# Altium schematic symbol library SamacSys.SchLib: 125 symbols (part 1 of 2)
Pins are listed as number, name and electrical type; pins without a type are passive.

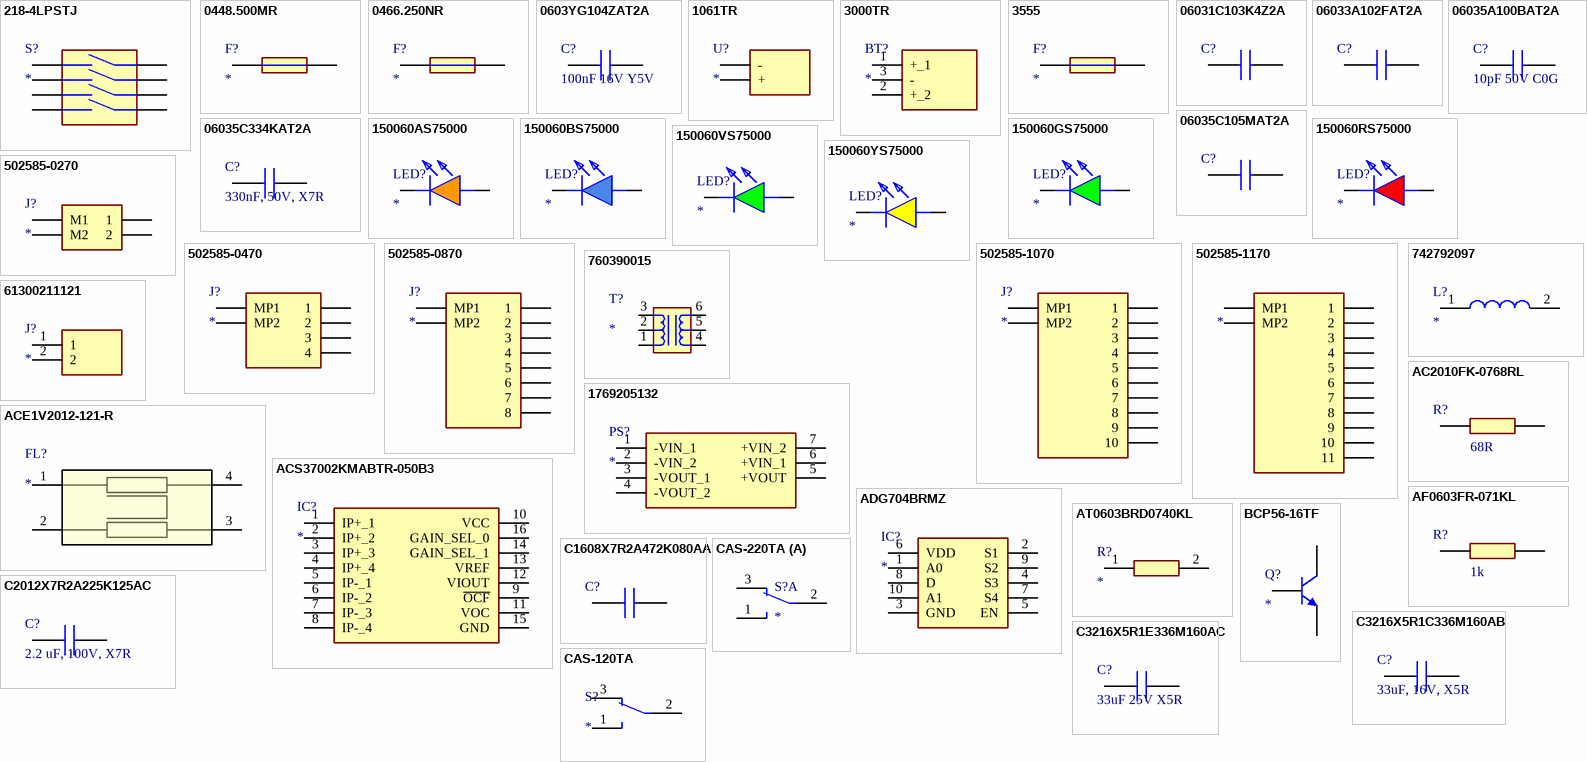
[diagram p0: symbols 218-4LPSTJ to CAS-220TA]

## 218-4LPSTJ
designator S?
Switch; Manufacturer_Name: CTS; Manufacturer_Part_Number: 218-4LPSTJ; Datasheet Link: https://www.ctscorp.com/wp-content/uploads/218.pdf; Height: 2.7mm; Mouser Part Number: 774-218-4LPSTJ; Mouser Price/Stock: https://www.mouser.co.uk/ProductDetail/CTS-Electronic-Components/218-4LPSTJ?qs=qNzHFtQhdJ%2Frpuf7cnHHWA%3D%3D; Arrow Part Number: 218-4LPSTJ; Arrow Price/Stock: https://www.arrow.com/en/products/218-4lpstj/cts
footprint 2184LPSTJ
pins: A1, A2, A3, A4, B1, B2, B3, B4

## 0448.500MR
designator F?
Fuse; Manufacturer_Name: LITTELFUSE; Manufacturer_Part_Number: 0448.500MR; Datasheet Link: https://www.mouser.in/datasheet/2/240/Littelfuse_Fuse_448_Datasheet_pdf-970935.pdf; Height: 2.94mm; Mouser Part Number: 576-0448.500MR; Mouser Price/Stock: https://www.mouser.co.uk/ProductDetail/Littelfuse/0448.500MR?qs=sba%2FvSn%252BnuOI9c6%252BQVFrGA%3D%3D; Arrow Part Number: 0448.500MR; Arrow Price/Stock: https://www.arrow.com/en/products/0448.500mr/littelfuse
footprint FUSC6127X294N
pins: 1, 2

## 0466.250NR
designator F?
Fuse; Manufacturer_Name: LITTELFUSE; Manufacturer_Part_Number: 0466.250NR; Datasheet Link: http://www.littelfuse.com/~/media/electronics/datasheets/fuses/littelfuse_fuse_466_datasheet.pdf.pdf; Height: 0.66mm; Mouser Part Number: 576-0466.250NR; Mouser Price/Stock: https://www.mouser.co.uk/ProductDetail/Littelfuse/0466.250NR?qs=OJFHm2hVE4FeDcEECJ4GEQ%3D%3D; Arrow Part Number: 0466.250NR; Arrow Price/Stock: https://www.arrow.com/en/products/0466.250nr/littelfuse?region=nac
footprint FUSC3215X66N
pins: 1, 2

## 0603YG104ZAT2A
designator C?, comment 100nF 16V Y5V
Capacitor 100nF 16V Y5V; Manufacturer_Name: Kyocera AVX; Manufacturer_Part_Number: 0603YG104ZAT2A; Datasheet Link: https://componentsearchengine.com/Datasheets/1/06031A100FAT2A.pdf; Height: 0.9mm; Mouser Part Number: 581-0603YG104ZAT2A; Mouser Price/Stock: https://www.mouser.co.uk/ProductDetail/AVX/0603YG104ZAT2A?qs=b9lrxWun4G3w2hKVYW6fsQ%3D%3D; Arrow Part Number: 0603YG104ZAT2A; Arrow Price/Stock: https://www.arrow.com/en/products/0603yg104zat2a/avx?region=nac; Value: 100nF
footprint CAPC1608X90N
pins: 1, 2

## 1061TR
designator U?
Undefined or Miscellaneous; Manufacturer_Name: Keystone Electronics; Manufacturer_Part_Number: 1061TR; Datasheet Link: https://www.keyelco.com/product-pdf.cfm?p=3845; Height: 7.62mm; Mouser Part Number: 534-1061TR; Mouser Price/Stock: https://www.mouser.co.uk/ProductDetail/Keystone-Electronics/1061TR?qs=q0tsjPZWdm8mEkIEudXsxA%3D%3D; Arrow Part Number: 1061TR; Arrow Price/Stock: https://www.arrow.com/en/products/1061tr/keystone-electronics?utm_currency=USD&region=europe
footprint 1061TR
pins: 1 +, 2 -

## 3000TR
designator BT?
Battery; Manufacturer_Name: Keystone Electronics; Manufacturer_Part_Number: 3000TR; Datasheet Link: https://www.keyelco.com/produchttps://www.mouser.co.za/datasheet/2/215/3000TR-742873.pdft-pdf.cfm?p=777; Height: 3.43mm; Mouser Part Number: 534-3000TR; Mouser Price/Stock: https://www.mouser.co.uk/ProductDetail/Keystone-Electronics/3000TR?qs=811De8TLL%252BeRUCmGL5ZsKg%3D%3D; Arrow Part Number: 3000TR; Arrow Price/Stock: https://www.arrow.com/en/products/3000tr/keystone-electronics?utm_currency=USD&region=europe
footprint 3000TR
pins: 1 +_1, 2 +_2, 3 -

## 3555
designator F?
Fuse; Manufacturer_Name: Keystone Electronics; Manufacturer_Part_Number: 3555; Datasheet Link: https://componentsearchengine.com/Datasheets/2/3555.pdf; Height: 4.6mm; Mouser Part Number: 534-3555; Mouser Price/Stock: https://www.mouser.co.uk/ProductDetail/Keystone-Electronics/3555?qs=qOqV1E1P08QI697WpZIiyQ%3D%3D
footprint 3555
pins: 1, 2

## 06031C103K4Z2A
designator C?, comment 10nF 100V X7R  (value not drawn)
Capacitor 10nF 100V X7R; Manufacturer_Name: Kyocera AVX; Manufacturer_Part_Number: 06031C103K4Z2A; Datasheet Link: https://componentsearchengine.com/Datasheets/1/06031A100FAT2A.pdf; Height: 0.9mm; Mouser Part Number: 581-06031C103K4Z2A; Mouser Price/Stock: https://www.mouser.com/Search/Refine.aspx?Keyword=581-06031C103K4Z2A; Arrow Part Number: 06031C103K4Z2A; Arrow Price/Stock: https://www.arrow.com/en/products/06031c103k4z2a/avx; Value: 10nF
footprint CAPC1608X90N
pins: 1, 2

## 06033A102FAT2A
designator C?, comment 1nF 25V COG  (value not drawn)
Capacitor 1nF 25V COG; Manufacturer_Name: Kyocera AVX; Manufacturer_Part_Number: 06033A102FAT2A; Datasheet Link: https://componentsearchengine.com/Datasheets/1/06031A100FAT2A.pdf; Height: 0.9mm; Mouser Part Number: 581-06033A102F; Mouser Price/Stock: https://www.mouser.com/Search/Refine.aspx?Keyword=581-06033A102F; Value: 1nF
footprint CAPC1608X90N
pins: 1, 2

## 06035A100BAT2A
designator C?, comment 10pF 50V C0G
Capacitor 10pF 50V C0G; Manufacturer_Name: Kyocera AVX; Manufacturer_Part_Number: 06035A100BAT2A; Datasheet Link: https://componentsearchengine.com/Datasheets/1/06031A100FAT2A.pdf; Height: 0.9mm; Mouser Part Number: 581-06035A100BAT2A; Mouser Price/Stock: https://www.mouser.com/Search/Refine.aspx?Keyword=581-06035A100BAT2A
footprint CAPC1608X90N
pins: 1, 2

## 06035C105MAT2A
designator C?, comment 1uF 50V X7R  (value not drawn)
Capacitor 1uF 50V X7R; Manufacturer_Name: Kyocera AVX; Manufacturer_Part_Number: 06035C105MAT2A; Datasheet Link: https://componentsearchengine.com/Datasheets/1/06031A100FAT2A.pdf; Height: 0.9mm; Mouser Part Number: 581-06035C105MAT2A; Mouser Price/Stock: https://www.mouser.co.uk/ProductDetail/KYOCERA-AVX/06035C105MAT2A?qs=%252BdQmOuGyFcHMsevPtc6OZQ%3D%3D; Value: 1uF
footprint CAPC1608X90N
pins: 1, 2

## 06035C334KAT2A
designator C?, comment 330nF, 50V, X7R
Capacitor 330nF, 50V, X7R; Manufacturer_Name: Kyocera AVX; Manufacturer_Part_Number: 06035C334KAT2A; Datasheet Link: https://componentsearchengine.com/Datasheets/1/06031A100FAT2A.pdf; Height: 0.9mm; Mouser Part Number: 581-06035C334KAT2A; Mouser Price/Stock: https://www.mouser.co.uk/ProductDetail/KYOCERA-AVX/06035C334KAT2A?qs=%252BdQmOuGyFcFl6Xc6UpmR5g%3D%3D; Supplier 1: Mouser; Supplier Part Number 1: 581-06035C334KAT2A
footprint CAPC1608X90N
pins: 1, 2

## 150060AS75000
designator LED?
LED; Manufacturer_Name: Wurth Elektronik; Manufacturer_Part_Number: 150060AS75000; Datasheet Link: https://componentsearchengine.com/Datasheets/2/150060AS75000.pdf; Height: 0.8mm; Mouser Part Number: 710-150060AS75000; Mouser Price/Stock: https://www.mouser.co.uk/ProductDetail/Wurth-Elektronik/150060AS75000?qs=d0WKAl%252BL4KbvMBYryeof0Q%3D%3D
footprint LEDC1608X80N
pins: 1 K, 2 A

## 150060BS75000
designator LED?
LED; Manufacturer_Name: Wurth Elektronik; Manufacturer_Part_Number: 150060BS75000; Datasheet Link: https://componentsearchengine.com/Datasheets/2/150060BS75000.pdf; Height: 0.8mm; Mouser Part Number: 710-150060BS75000; Mouser Price/Stock: https://www.mouser.co.uk/ProductDetail/Wurth-Elektronik/150060BS75000?qs=LlUlMxKIyB2DLLpXQThavA%3D%3D
footprint LEDC1608X80N
pins: 1 K, 2 A

## 150060GS75000
designator LED?
LED; Manufacturer_Name: Wurth Elektronik; Manufacturer_Part_Number: 150060GS75000; Datasheet Link: https://componentsearchengine.com/Datasheets/2/150060GS75000.pdf; Height: 0.8mm; Mouser Part Number: 710-150060GS75000; Mouser Price/Stock: https://www.mouser.co.uk/ProductDetail/Wurth-Elektronik/150060GS75000?qs=LlUlMxKIyB0UYkq5lDO8nA%3D%3D
footprint LEDC1608X80N
pins: 1 K, 2 A

## 150060RS75000
designator LED?
LED; Manufacturer_Name: Wurth Elektronik; Manufacturer_Part_Number: 150060RS75000; Datasheet Link: http://katalog.we-online.de/led/datasheet/150060RS75000.pdf; Height: 0.8mm; Mouser Part Number: 710-150060RS75000; Mouser Price/Stock: https://www.mouser.co.uk/ProductDetail/Wurth-Elektronik/150060RS75000?qs=LlUlMxKIyB3QnmZ3fw%2FVCA%3D%3D
footprint LEDC1608X80N
pins: 1 K, 2 A

## 150060VS75000
designator LED?
LED; Manufacturer_Name: Wurth Elektronik; Manufacturer_Part_Number: 150060VS75000; Datasheet Link: https://componentsearchengine.com/Datasheets/2/150060VS75000.pdf; Height: 0.8mm; Mouser Part Number: 710-150060VS75000; Mouser Price/Stock: https://www.mouser.co.uk/ProductDetail/Wurth-Elektronik/150060VS75000?qs=LlUlMxKIyB1Q1Bi5mQ%2FKLw%3D%3D
footprint LEDC1608X80N
pins: 1 K, 2 A

## 150060YS75000
designator LED?
LED; Manufacturer_Name: Wurth Elektronik; Manufacturer_Part_Number: 150060YS75000; Datasheet Link: http://uk.rs-online.com/web/p/products/8154219; Height: 0.8mm; Mouser Part Number: 710-150060YS75000; Mouser Price/Stock: https://www.mouser.co.uk/ProductDetail/Wurth-Elektronik/150060YS75000?qs=LlUlMxKIyB0nKmwefHgtZw%3D%3D
footprint LEDC1608X80N
pins: 1 K, 2 A

## 502585-0270
designator J?
Connector; Manufacturer_Name: Molex; Manufacturer_Part_Number: 502585-0270; Datasheet Link: https://www.molex.com/pdm_docs/sd/5025850270_sd.pdf; Height: 6.35mm; Mouser Part Number: 538-502585-0270; Mouser Price/Stock: https://www.mouser.co.uk/ProductDetail/Molex/502585-0270?qs=3OKVfsn1b5AIV0Cqykd0DA%3D%3D; Arrow Part Number: 502585-0270; Arrow Price/Stock: https://www.arrow.com/en/products/502585-0270/molex
footprint 5025850270
pins: 1, 2, M1, M2

## 502585-0470
designator J?
Connector; Manufacturer_Name: Molex; Manufacturer_Part_Number: 502585-0470; Height: 6.6mm; Mouser Part Number: 538-502585-0470; Mouser Price/Stock: https://www.mouser.co.uk/ProductDetail/Molex/502585-0470?qs=3OKVfsn1b5AU8ip3wCejKg%3D%3D; Arrow Part Number: 502585-0470; Arrow Price/Stock: https://www.arrow.com/en/products/5025850470/molex
footprint 5025850470
pins: 1, 2, 3, 4, MP1, MP2

## 502585-0870
designator J?
Connector; Manufacturer_Name: Molex; Manufacturer_Part_Number: 502585-0870; Datasheet Link: https://componentsearchengine.com/Datasheets/2/502585-0870.pdf; Height: 6.35mm; Mouser Part Number: 538-502585-0870; Mouser Price/Stock: https://www.mouser.co.uk/ProductDetail/Molex/502585-0870?qs=3OKVfsn1b5BOXCAdpuiwCA%3D%3D; Arrow Part Number: 502585-0870; Arrow Price/Stock: https://www.arrow.com/en/products/502585-0870/molex
footprint 5025850870
pins: 1, 2, 3, 4, 5, 6, 7, 8, MP1, MP2

## 502585-1070
designator J?
Connector; Manufacturer_Name: Molex; Manufacturer_Part_Number: 502585-1070; Datasheet Link: https://www.molex.com/pdm_docs/sd/5025851070_sd.pdf; Height: 6.35mm; Mouser Part Number: 538-502585-1070; Mouser Price/Stock: https://www.mouser.co.uk/ProductDetail/Molex/502585-1070?qs=3OKVfsn1b5BLfpTO0z92Dw%3D%3D; Arrow Part Number: 502585-1070; Arrow Price/Stock: https://www.arrow.com/en/products/502585-1070/molex
footprint 5025851070
pins: 1, 2, 3, 4, 5, 6, 7, 8, 9, 10, MP1, MP2

## 502585-1170
designator ?
Connector; Manufacturer_Name: Molex; Manufacturer_Part_Number: 502585-1070; Datasheet Link: https://www.molex.com/pdm_docs/sd/5025851070_sd.pdf; Height: 6.35mm; Mouser Part Number: 538-502585-1070; Mouser Price/Stock: https://www.mouser.co.uk/ProductDetail/Molex/502585-1070?qs=3OKVfsn1b5BLfpTO0z92Dw%3D%3D; Arrow Part Number: 502585-1070; Arrow Price/Stock: https://www.arrow.com/en/products/502585-1070/molex
footprint 5025851170
pins: 1, 2, 3, 4, 5, 6, 7, 8, 9, 10, 11, MP1, MP2

## 742792097
designator L?
Inductor; Manufacturer_Name: Wurth Elektronik; Manufacturer_Part_Number: 742792097; Datasheet Link: http://componentsearchengine.com/Datasheets/1/742792097.pdf; Height: 1.1mm; Mouser Part Number: 710-742792097; Mouser Price/Stock: https://www.mouser.co.uk/ProductDetail/Wurth-Elektronik/742792097?qs=5twSNpOB8IDmTOgwZuY8hA%3D%3D
footprint CAPC2012X110N
pins: 1, 2

## 760390015
designator T?
Transformer; Manufacturer_Name: Wurth Elektronik; Manufacturer_Part_Number: 760390015; Datasheet Link: https://www.we-online.com/components/products/datasheet/760390015.pdf; Mouser Part Number: 710-760390015; Mouser Price/Stock: https://www.mouser.co.uk/ProductDetail/Wurth-Elektronik/760390015?qs=wElim4iM2pjOQCmk%252B8YbFA%3D%3D
footprint 760390015
pins: 1, 2, 3, 4, 5, 6

## 1769205132
designator PS?
Power Supply; Manufacturer_Name: Wurth Elektronik; Manufacturer_Part_Number: 1769205132; Datasheet Link: https://www.we-online.com/components/products/datasheet/1769205132.pdf; Height: 3.2mm; Mouser Part Number: 710-1769205132; Mouser Price/Stock: https://www.mouser.co.uk/ProductDetail/Wurth-Elektronik/1769205132?qs=T%252BzbugeAwjiUHVVyhCL5qA%3D%3D
footprint 1769205132
pins: 1 -VIN_1, 2 -VIN_2, 3 -VOUT_1, 4 -VOUT_2, 5 +VOUT, 6 +VIN_1, 7 +VIN_2

## 61300211121
designator J?
Connector; Manufacturer_Name: Wurth Elektronik; Manufacturer_Part_Number: 61300211121; Datasheet Link: https://componentsearchengine.com/Datasheets/2/61300211121.pdf; Height: 8.54mm; Mouser Part Number: 710-61300211121; Mouser Price/Stock: https://www.mouser.co.uk/ProductDetail/Wurth-Elektronik/61300211121?qs=t4813l51qx%252B1A5GYDQxPlw%3D%3D
footprint HDRV2W110P0X254_1X2_508X254X854P
pins: 1, 2

## AC2010FK-0768RL
designator R?  value 68R  (hidden comment: *)
Resistor; Manufacturer_Name: YAGEO; Manufacturer_Part_Number: AC2010FK-0768RL; Datasheet Link: https://www.yageo.com/upload/media/product/productsearch/datasheet/rchip/PYu-AC_51_RoHS_L_10.pdf; Height: 0.65mm
footprint RESC5025X65N
pins: 1, 2

## ACE1V2012-121-R
designator FL?
Filter; Manufacturer_Name: Eaton; Manufacturer_Part_Number: ACE1V2012-121-R; Datasheet Link: https://www.eaton.com/content/dam/eaton/products/electronic-components/resources/data-sheet/eaton-ace1v2012-automotive-common-mode-chip-inductor-data-sheet.pdf; Height: 1.4mm; Mouser Part Number: 504-ACE1V2012-121-R; Mouser Price/Stock: https://www.mouser.co.uk/ProductDetail/Coiltronics-Eaton/ACE1V2012-121-R?qs=YwPsRIUVAOfYW6FI0EMgkw%3D%3D
footprint ACE1V2012121R
pins: 1, 2, 3, 4

## ACS37002KMABTR-050B3
designator IC?
Integrated Circuit; Manufacturer_Name: Allegro Microsystems; Manufacturer_Part_Number: ACS37002KMABTR-050B3; Datasheet Link: https://www.allegromicro.com/-/media/files/datasheets/acs37002-datasheet.ashx?sc_lang=en&hash=FFD236A6D18C7717C5A7906548FB48D2; Height: 2.65mm; Mouser Part Number: 250-37002KMABTR050B3; Mouser Price/Stock: https://www.mouser.co.uk/ProductDetail/Allegro-MicroSystems/ACS37002KMABTR-050B3?qs=pUKx8fyJudCSE%2FoW6XxDYQ%3D%3D
footprint SOIC127P1030X265-16N
pins: 1 IP+_1, 2 IP+_2, 3 IP+_3, 4 IP+_4, 5 IP-_1, 6 IP-_2, 7 IP-_3, 8 IP-_4, 9 ~{OCF}, 10 VCC, 11 VOC, 12 VIOUT, 13 VREF, 14 GAIN_SEL_1, 15 GND, 16 GAIN_SEL_0

## ADG704BRMZ
designator IC?
Integrated Circuit; Manufacturer_Name: Analog Devices; Manufacturer_Part_Number: ADG704BRMZ; Datasheet Link: https://datasheet.datasheetarchive.com/originals/distributors/Datasheets-4/DSA-69549.pdf; Height: 1.1mm; Mouser Part Number: 584-ADG704BRMZ; Mouser Price/Stock: https://www.mouser.co.uk/ProductDetail/Analog-Devices/ADG704BRMZ?qs=BpaRKvA4VqEkN1EGAKO1Aw%3D%3D; Arrow Part Number: ADG704BRMZ; Arrow Price/Stock: https://www.arrow.com/en/products/adg704brmz/analog-devices?utm_currency=USD&region=nac
footprint SOP50P490X110-10N
pins: 1 A0, 2 S1, 3 GND, 4 S3, 5 EN, 6 VDD, 7 S4, 8 D, 9 S2, 10 A1

## AF0603FR-071KL
designator R?, comment value 1k  (hidden comment: 1k, 1%)
Resistor 1k, 1%; Manufacturer_Name: YAGEO; Manufacturer_Part_Number: AF0603FR-071KL; Datasheet Link: https://www.mouser.de/datasheet/2/447/PYu_AF_51_RoHS_L_9-3358811.pdf; Height: 0.55mm; Mouser Part Number: 603-AF0603FR-071KL; Mouser Price/Stock: https://www.mouser.co.uk/ProductDetail/YAGEO/AF0603FR-071KL?qs=tggtontpCXPK7%252BIEiEzGxw%3D%3D; Supplier 1: Avnet; Supplier Part Number 1: AF0603FR-071KL
footprint RESC1608X55N
pins: 1, 2

## AT0603BRD0740KL
designator R?
Resistor; Manufacturer_Name: YAGEO; Manufacturer_Part_Number: AT0603BRD0740KL; Datasheet Link: https://pt.mouser.com/datasheet/2/447/PYu_AT_51_RoHS_L_6-3003058.pdf; Height: 0.55mm
footprint RESC1608X55N
pins: 1, 2

## BCP56-16TF
designator Q?
Transistor BJT NPN; Manufacturer_Name: Nexperia; Manufacturer_Part_Number: BCP56-16TF; Datasheet Link: https://assets.nexperia.com/documents/data-sheet/BCP56T_SER.pdf; Height: 1.8mm; Mouser Part Number: 771-BCP56-16TF; Mouser Price/Stock: https://www.mouser.co.uk/ProductDetail/Nexperia/BCP56-16TF?qs=uj7TeyS2Sj96ubfysKmpcg%3D%3D; Arrow Part Number: BCP56-16TF; Arrow Price/Stock: https://www.arrow.com/en/products/bcp56-16tf/nexperia?region=nac
footprint SOT230P700X180-4N
pins: 1 B, 2 C (power), 3 E

## C1608X7R2A472K080AA
designator C?, comment 4.7nF 100V X7R  (value not drawn)
Capacitor 4.7nF 100V X7R; Manufacturer_Name: TDK; Manufacturer_Part_Number: C1608X7R2A472K080AA; Datasheet Link: https://product.tdk.com/info/en/catalog/datasheets/mlcc_commercial_midvoltage_en.pdf; Height: 0.8mm; Mouser Part Number: 810-C1608X7R2A472K; Mouser Price/Stock: https://www.mouser.co.uk/ProductDetail/TDK/C1608X7R2A472K080AA/?qs=NRhsANhppD8eiVaujK4TFA%3D%3D; Arrow Part Number: C1608X7R2A472K080AA; Arrow Price/Stock: https://www.arrow.com/en/products/c1608x7r2a472k080aa/tdk?utm_currency=USD&region=nac; Value: 4.7nF 100V
footprint CAPC1608X80N
pins: 1, 2

## C2012X7R2A225K125AC
designator C?, comment 2.2 uF, 100V, X7R
Capacitor 2.2 uF, 100V, X7R; Manufacturer_Name: TDK; Manufacturer_Part_Number: C2012X7R2A225K125AC; Datasheet Link: https://product.tdk.com/info/en/catalog/datasheets/mlcc_commercial_midvoltage_en.pdf; Height: 1.45mm; Mouser Part Number: 810-C2012X7R2225K125; Mouser Price/Stock: https://www.mouser.co.uk/ProductDetail/TDK/C2012X7R2A225K125AC?qs=17ckDYBRdekDf%2FwiwHq7Mg%3D%3D; Arrow Part Number: C2012X7R2A225K125AC; Arrow Price/Stock: https://www.arrow.com/en/products/c2012x7r2a225k125ac/tdk?utm_currency=USD&region=nac; Supplier 1: Mouser; Supplier Part Number 1: 810-C2012X7R2225K125
footprint CAPC2012X145N
pins: 1, 2

## C3216X5R1C336M160AB
designator C?, comment 33uF, 16V, X5R
Capacitor 33uF, 16V, X5R; Manufacturer_Name: TDK; Manufacturer_Part_Number: C3216X5R1C336M160AB; Datasheet Link: https://product.tdk.com/info/en/catalog/datasheets/mlcc_commercial_midvoltage_en.pdf; Height: 1.8mm; Mouser Part Number: 810-C3216X5R1C336M; Mouser Price/Stock: https://www.mouser.com/Search/Refine.aspx?Keyword=810-C3216X5R1C336M; Arrow Part Number: C3216X5R1C336M160AB; Arrow Price/Stock: https://www.arrow.com/en/products/c3216x5r1c336m160ab/tdk; Supplier 1: Rs; Supplier Part Number 1: 9162902
footprint CAPC3216X180N
pins: 1, 2

## C3216X5R1E336M160AC
designator C?, comment 33uF 25V X5R
Capacitor 33uF 25V X5R; Manufacturer_Name: TDK; Manufacturer_Part_Number: C3216X5R1E336M160AC; Datasheet Link: https://product.tdk.com/info/en/catalog/datasheets/mlcc_commercial_midvoltage_en.pdf; Height: 1.8mm; Mouser Part Number: 810-C3216X5R1E336M; Mouser Price/Stock: https://www.mouser.co.uk/ProductDetail/TDK/C3216X5R1E336M160AC?qs=LcTL%2F5vFEzFIMvFz4LzwTw%3D%3D; Arrow Part Number: C3216X5R1E336M160AC; Arrow Price/Stock: https://www.arrow.com/en/products/c3216x5r1e336m160ac/tdk
footprint CAPC3216X180N
pins: 1, 2

## CAS-120TA
designator S?
Switch; Manufacturer_Name: Nidec Copal; Manufacturer_Part_Number: CAS-120TA; Datasheet Link: https://www.mouser.com/datasheet/2/972/cas-1628136.pdf; Height: 2.5mm; Mouser Part Number: 229-CAS-120TA; Mouser Price/Stock: https://www.mouser.co.uk/ProductDetail/Nidec-Components/CAS-120TA?qs=XeJtXLiO41SaUq1d6RzxrQ%3D%3D; Arrow Part Number: CAS-120TA; Arrow Price/Stock: https://www.arrow.com/en/products/cas-120ta/nidec-copal-electronics
footprint CAS120TA
pins: 1 NO_1, 2 COM_1, 3 NC_1

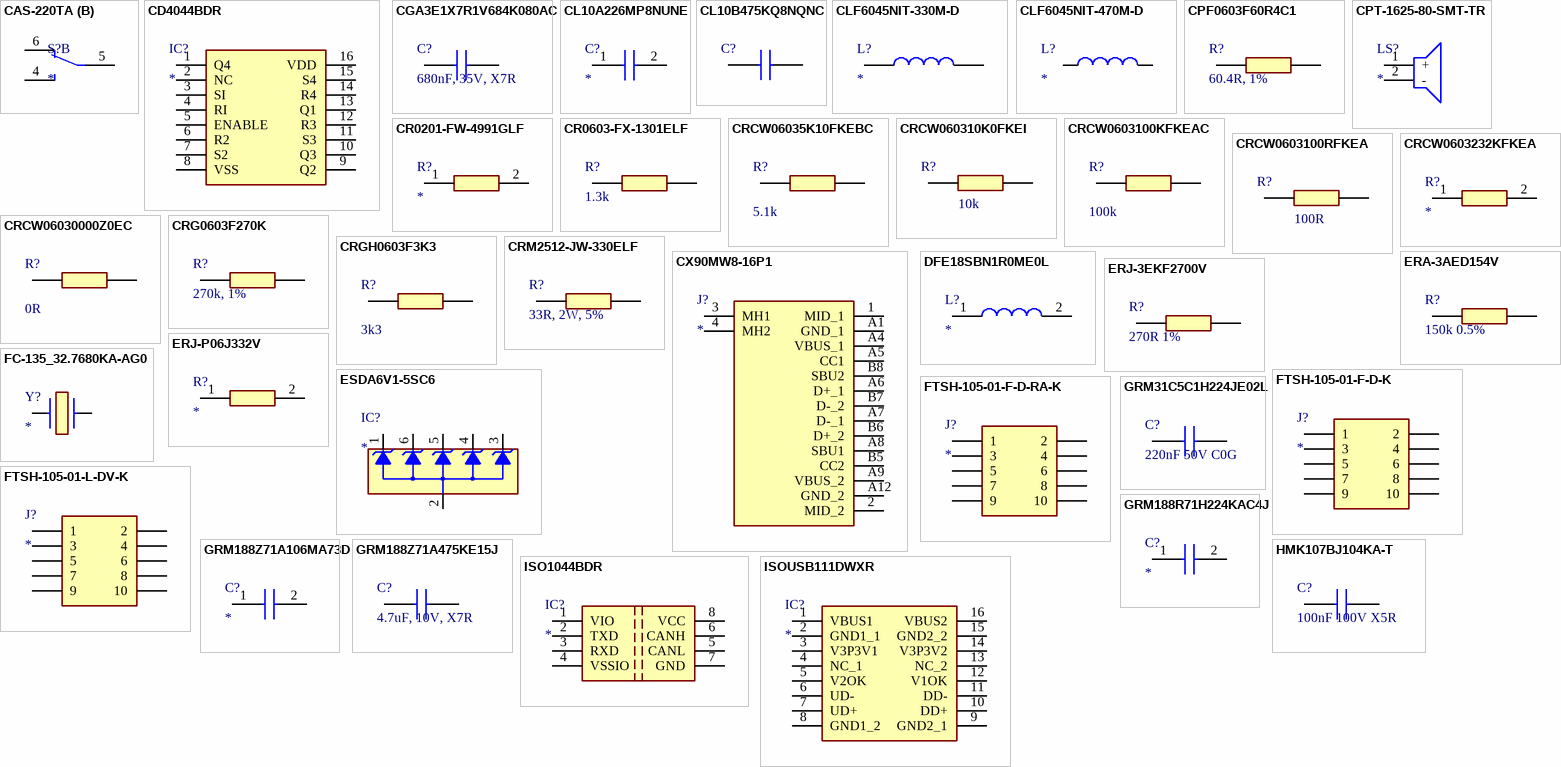
[diagram p1: symbols CAS-220TA to ISOUSB111DWXR]

## CAS-220TA
designator S?
Switch; Manufacturer_Name: Nidec Copal; Manufacturer_Part_Number: CAS-220TA; Datasheet Link: https://www.digikey.ph/en/products/detail/nidec-components-corporation/CAS-220TA/341663?msockid=39f1ec84d77b6f4428b7f904d6676eed; Height: 2.5mm; Mouser Part Number: 229-CAS-220TA; Mouser Price/Stock: https://www.mouser.co.uk/ProductDetail/Nidec-Components/CAS-220TA?qs=XeJtXLiO41Tq8gHkPWHRfA%3D%3D
footprint CAS220TA
part A pins: 1 NO_1, 2 COM_1, 3 NC_1
part B pins: 4 NO_2, 5 COM_2, 6 NC_2

## CD4044BDR
designator IC?
Integrated Circuit; Manufacturer_Name: Texas Instruments; Manufacturer_Part_Number: CD4044BDR; Datasheet Link: http://www.ti.com/lit/ds/symlink/cd4043b.pdf; Height: 1.75mm; Mouser Part Number: 595-CD4044BDR; Mouser Price/Stock: https://www.mouser.co.uk/ProductDetail/Texas-Instruments/CD4044BDR?qs=LSR%252BNeaw%2FwCYur1174DbLw%3D%3D; Arrow Part Number: CD4044BDR; Arrow Price/Stock: https://www.arrow.com/en/products/cd4044bdr/texas-instruments?region=nac
footprint SOIC127P600X175-16N
pins: 1 Q4, 2 NC, 3 SI, 4 RI, 5 ENABLE, 6 R2, 7 S2, 8 VSS, 9 Q2, 10 Q3, 11 S3, 12 R3, 13 Q1, 14 R4, 15 S4, 16 VDD

## CGA3E1X7R1V684K080AC
designator C?, comment 680nF, 35V, X7R
Capacitor 680nF, 35V, X7R; Manufacturer_Name: TDK; Manufacturer_Part_Number: CGA3E1X7R1V684K080AC; Datasheet Link: http://docs-europe.electrocomponents.com/webdocs/14e9/0900766b814e9125.pdf; Height: 0.9mm; Supplier 1: Mouser; Supplier Part Number 1: 810-CGA3E1X7R1V684KC
footprint CAPC1608X90N
pins: 1, 2

## CL10A226MP8NUNE
designator C?
Capacitor; Manufacturer_Name: SAMSUNG; Manufacturer_Part_Number: CL10A226MP8NUNE; Datasheet Link: https://datasheet.datasheetarchive.com/originals/distributors/Datasheets-DGA10/2407063.pdf; Height: 1.05mm; Mouser Part Number: 187-CL10A226MP8NUNE; Mouser Price/Stock: https://www.mouser.co.uk/ProductDetail/Samsung-Electro-Mechanics/CL10A226MP8NUNE?qs=gRKWieUq2Hb5O0PTfRKzDQ%3D%3D; Arrow Part Number: CL10A226MP8NUNE; Arrow Price/Stock: https://www.arrow.com/en/products/cl10a226mp8nune/samsung-electro-mechanics?region=europe
footprint CAPC1608X105N
pins: 1, 2

## CL10B475KQ8NQNC
designator C?, comment 4.7uF 6.3V X7R  (value not drawn)
Capacitor 4.7uF 6.3V X7R; Manufacturer_Name: SAMSUNG; Manufacturer_Part_Number: CL10B475KQ8NQNC; Datasheet Link: https://datasheet.datasheetarchive.com/originals/distributors/Datasheets-DGA10/2410603.pdf; Height: 0.95mm; Mouser Part Number: 187-CL10B475KQ8NQNC; Mouser Price/Stock: https://www.mouser.co.uk/ProductDetail/Samsung-Electro-Mechanics/CL10B475KQ8NQNC?qs=6tbHoouHnQxd6rcaSwpT7Q%3D%3D; Arrow Part Number: CL10B475KQ8NQNC; Arrow Price/Stock: https://www.arrow.com/en/products/cl10b475kq8nqnc/samsung-electro-mechanics; Value: 4.7uF
footprint CAPC1608X95N
pins: 1, 2

## CLF6045NIT-330M-D
designator L?
Inductor; Manufacturer_Name: TDK; Manufacturer_Part_Number: CLF6045NIT-330M-D; Datasheet Link: https://product.tdk.com/system/files/dam/doc/product/inductor/inductor/smd/catalog/inductor_automotive_power_clf6045ni-d_en.pdf; Mouser Part Number: 810-CLF6045NIT330MD; Mouser Price/Stock: https://www.mouser.co.uk/ProductDetail/TDK/CLF6045NIT-330M-D?qs=YdQ7Kj7W0bxA8K96Mp4PlQ%3D%3D; Arrow Part Number: CLF6045NIT-330M-D; Arrow Price/Stock: https://www.arrow.com/en/products/clf6045nit-330m-d/tdk?region=nac
footprint CLF6045_*
pins: 1, 2

## CLF6045NIT-470M-D
designator L?
Inductor; Manufacturer_Name: TDK; Manufacturer_Part_Number: CLF6045NIT-470M-D; Datasheet Link: https://product.tdk.com/system/files/dam/doc/product/inductor/inductor/smd/catalog/inductor_automotive_power_clf6045ni-d_en.pdf; Mouser Part Number: 810-CLF6045NIT470MD; Mouser Price/Stock: https://www.mouser.co.uk/ProductDetail/TDK/CLF6045NIT-470M-D?qs=YdQ7Kj7W0bxoCM5zjdDu7Q%3D%3D; Arrow Part Number: CLF6045NIT-470M-D; Arrow Price/Stock: https://www.arrow.com/en/products/clf6045nit-470m-d/tdk
footprint CLF6045_*
pins: 1, 2

## CPF0603F60R4C1
designator R?, comment 60.4R, 1%
Resistor 60.4R, 1%; Manufacturer_Name: TE Connectivity; Manufacturer_Part_Number: CPF0603F60R4C1; Datasheet Link: https://www.te.com/commerce/DocumentDelivery/DDEController?Action=srchrtrv&DocNm=8-1773459-4_ELEVATOR_ESCALATOR_SOLUTIONS&DocType=Data%20Sheet&DocLang=English&PartCntxt=4-1879335-4&DocFormat=pdf; Height: 0.55mm; Value: 60.4R; Supplier 1: Mouser; Supplier Part Number 1: 279-CPF0603F60R4C1
footprint RESC1608X55N
pins: 1, 2

## CPT-1625-80-SMT-TR
designator LS?
Loudspeaker or Buzzer; Manufacturer_Name: Same Sky; Manufacturer_Part_Number: CPT-1625-80-SMT-TR; Datasheet Link: https://www.sameskydevices.com/product/resource/supplyframepdf/cpt-1625-80-smt-tr.pdf; Height: 3mm; Mouser Part Number: 490-CPT-1625-80SMTTR; Mouser Price/Stock: https://www.mouser.co.uk/ProductDetail/CUI-Devices/CPT-1625-80-SMT-TR?qs=P1JMDcb91o43eCFIymFs3Q%3D%3D
footprint CPT162580SMTTR
pins: 1 +, 2 -

## CR0201-FW-4991GLF
designator R?
Resistor; Manufacturer_Name: Bourns; Manufacturer_Part_Number: CR0201-FW-4991GLF; Datasheet Link: https://www.bourns.com/pdfs/chpreztr.pdf; Height: 0.26mm; Mouser Part Number: 652-CR0201FW-4991GLF; Mouser Price/Stock: https://www.mouser.co.uk/ProductDetail/Bourns/CR0201-FW-4991GLF?qs=W7X4MxMep48JtJbJXkcmpg%3D%3D
footprint RESC0603X26N
pins: 1, 2

## CR0603-FX-1301ELF
designator R?, comment value 1.3k  (hidden comment: 1.3k, 1%)
Resistor 1.3k, 1%; Manufacturer_Name: Bourns; Manufacturer_Part_Number: CR0603-FX-1301ELF; Datasheet Link: https://www.bourns.com/pdfs/chpreztr.pdf; Height: 0.55mm; Mouser Part Number: 652-CR0603FX-1301ELF; Mouser Price/Stock: http://www.mouser.com/Search/ProductDetail.aspx?qs=e7cxVwPieuqy%252bILjxvjWKw%3d%3d; Arrow Part Number: CR0603-FX-1301ELF; Arrow Price/Stock: https://www.arrow.com/en/products/cr0603-fx-1301elf/bourns; Supplier 1: Avnet; Supplier Part Number 1: 34AK1363
footprint RESC1608X55N
pins: 1, 2

## CRCW06035K10FKEBC
designator R?, comment value 5.1k  (hidden comment: 5.1k, 1%)
Resistor 5.1k, 1%; Manufacturer_Name: Vishay; Manufacturer_Part_Number: CRCW06035K10FKEBC; Datasheet Link: https://www.vishay.com/docs/28773/crcwce3.pdf; Height: 0.55mm; Mouser Part Number: 71-CRCW06035K10FKEBC; Mouser Price/Stock: https://www.mouser.co.uk/ProductDetail/Vishay-Dale/CRCW06035K10FKEBC?qs=wd5RIQLrsJiajonkePuzqw%3D%3D; Arrow Part Number: CRCW06035K10FKEBC; Arrow Price/Stock: https://www.arrow.com/en/products/crcw06035k10fkebc/vishay?region=nac; Supplier 1: Mouser; Supplier Part Number 1: 71-CRCW06035K10FKEBC
footprint RESC1608X55N
pins: 1, 2

## CRCW060310K0FKEI
designator R?, comment value 10k  (hidden comment: 10k, 1%)
Resistor 10k, 1%; Manufacturer_Name: Vishay; Manufacturer_Part_Number: CRCW060310K0FKEI; Datasheet Link: http://www.vishay.com/docs/20035/dcrcwe3.pdf; Height: 0.5mm; Mouser Part Number: 71-CRCW060310K0FKEI; Mouser Price/Stock: https://www.mouser.co.uk/ProductDetail/Vishay-Dale/CRCW060310K0FKEI?qs=3qWEzBg5KnKofE%252B8acPBRA%3D%3D; Arrow Part Number: CRCW060310K0FKEI; Arrow Price/Stock: https://www.arrow.com/en/products/crcw060310k0fkei/vishay?utm_currency=USD&region=nac; Supplier 1: Mouser; Supplier Part Number 1: 71-CRCW060310K0FKEI
footprint RESC1608X50N
pins: 1, 2

## CRCW0603100KFKEAC
designator R?, comment value 100k  (hidden comment: 100k 1%)
Resistor 100k, 1%; Manufacturer_Name: Vishay; Manufacturer_Part_Number: CRCW0603100KFKEAC; Datasheet Link: https://www.mouser.com/datasheet/2/427/crcwce3-1223726.pdf; Height: 0.55mm; Mouser Part Number: 71-CRCW0603100KFKEAC; Mouser Price/Stock: https://www.mouser.co.uk/ProductDetail/Vishay-Dale/CRCW0603100KFKEAC?qs=E3Y5ESvWgWPxzfNYyMgX1w%3D%3D; Arrow Part Number: CRCW0603100KFKEAC; Arrow Price/Stock: https://www.arrow.com/en/products/crcw0603100kfkeac/vishay?utm_currency=USD&region=nac; Supplier 1: Mouser; Supplier Part Number 1: 71-CRCW0603100KFKEAC
footprint RESC1608X55N
pins: 1, 2

## CRCW0603100RFKEA
designator R?, comment value 100R  (hidden comment: 100R, 1%)
Resistor 100R, 1%; Manufacturer_Name: Vishay; Manufacturer_Part_Number: CRCW0603100RFKEA; Datasheet Link: http://www.vishay.com/docs/20035/dcrcwe3.pdf; Height: 0.5mm; Mouser Part Number: 71-CRCW0603-100-E3; Mouser Price/Stock: https://www.mouser.co.uk/ProductDetail/Vishay-Dale/CRCW0603100RFKEA?qs=90AHS1y%2FsidGWjjxZAupKg%3D%3D; Arrow Part Number: CRCW0603100RFKEA; Arrow Price/Stock: https://www.arrow.com/en/products/crcw0603100rfkea/vishay?utm_currency=USD&region=europe; Supplier 1: Mouser; Supplier Part Number 1: 71-CRCW0603-100-E3
footprint RESC1608X50N
pins: 1, 2

## CRCW0603232KFKEA
designator R?
Resistor; Manufacturer_Name: Vishay; Manufacturer_Part_Number: CRCW0603232KFKEA; Datasheet Link: http://www.vishay.com/docs/20035/dcrcwe3.pdf; Height: 0.5mm; Mouser Part Number: 71-CRCW0603-232K-E3; Mouser Price/Stock: https://www.mouser.co.uk/ProductDetail/Vishay-Dale/CRCW0603232KFKEA?qs=NHKSztHah43mx5UrSmXOxA%3D%3D; Arrow Part Number: CRCW0603232KFKEA; Arrow Price/Stock: https://www.arrow.com/en/products/crcw0603232kfkea/vishay
footprint RESC1608X50N
pins: 1, 2

## CRCW06030000Z0EC
designator R?, comment value 0R  (hidden comment: 0Ohm)
Resistor 0R; Manufacturer_Name: Vishay; Manufacturer_Part_Number: CRCW06030000Z0EC; Datasheet Link: http://www.vishay.com/docs/20035/dcrcwe3.pdf; Height: 0.5mm; Mouser Part Number: 71-CRCW06030000Z0EC; Mouser Price/Stock: https://www.mouser.co.uk/ProductDetail/Vishay-Dale/CRCW06030000Z0EC?qs=5Vo7YKalRVV5nT3RQodYAA%3D%3D; Arrow Part Number: CRCW06030000Z0EC; Arrow Price/Stock: https://www.arrow.com/en/products/crcw06030000z0ec/vishay?utm_currency=USD&region=nac
footprint RESC1608X50N
pins: 1, 2

## CRG0603F270K
designator R?, comment 270k, 1%
Resistor 270k, 1%; Manufacturer_Name: TE Connectivity; Manufacturer_Part_Number: CRG0603F270K; Datasheet Link: http://docs-europe.electrocomponents.com/webdocs/13d1/0900766b813d116f.pdf; Height: 0.55mm; Supplier 1: Arrow Electronics; Supplier Part Number 1: 1622896-1
footprint RESC1608X55N
pins: 1, 2

## CRGH0603F3K3
designator R?, comment value 3k3  (hidden comment: 3k3 1%)
Resistor 3k3 1%; Manufacturer_Name: TE Connectivity; Manufacturer_Part_Number: CRGH0603F3K3; Datasheet Link: http://docs-europe.electrocomponents.com/webdocs/12d7/0900766b812d7379.pdf; Height: 0.55mm; Supplier 1: Avnet; Supplier Part Number 1: 46AK9312
footprint RESC1608X55N
pins: 1, 2

## CRM2512-JW-330ELF
designator R?, comment 33R, 2W, 5%
Resistor 33R, 2W, 5%; Manufacturer_Name: Bourns; Manufacturer_Part_Number: CRM2512-JW-330ELF; Datasheet Link: http://www.bourns.com/data/global/pdfs/CRM0805_1206_2010.pdf; Height: 0.8mm; Mouser Part Number: 652-CRM2512JW330ELF; Mouser Price/Stock: https://www.mouser.co.uk/ProductDetail/Bourns/CRM2512-JW-330ELF?qs=dxeCVZFKEXcR8BXxHz0dQA%3D%3D; Supplier 1: Mouser; Supplier Part Number 1: 652-CRM2512JW330ELF
footprint RESC6331X80N
pins: 1, 2

## CX90MW8-16P1
designator J?
Connector; Manufacturer_Name: Hirose; Manufacturer_Part_Number: CX90MW8-16P1; Datasheet Link: https://www.hirose.com/en/product/p/CL0480-1037-0-00; Height: 2.275mm; Mouser Part Number: 798-CX90MW8-16P1; Mouser Price/Stock: https://www.mouser.co.uk/ProductDetail/Hirose-Connector/CX90MW8-16P1?qs=ZcfC38r4PoufgP%2F29rnabA%3D%3D
footprint CX90MW816P1
pins: 1 MID_1, 2 MID_2, 3 MH1, 4 MH2, A1 GND_1, A4 VBUS_1, A5 CC1, A6 D+_1, A7 D-_1, A8 SBU1, A9 VBUS_2, A12 GND_2, B5 CC2, B6 D+_2, B7 D-_2, B8 SBU2

## DFE18SBN1R0ME0L
designator L?
Inductor; Manufacturer_Name: Murata Electronics; Manufacturer_Part_Number: DFE18SBN1R0ME0L; Datasheet Link: https://search.murata.co.jp/Ceramy/image/img/P02/JETE243A-0041.pdf; Height: 0.8mm; Mouser Part Number: 81-DFE18SBN1R0ME0L; Mouser Price/Stock: https://www.mouser.co.uk/ProductDetail/Murata-Electronics/DFE18SBN1R0ME0L?qs=byeeYqUIh0Mps9dQtDnpsA%3D%3D
footprint DFE18SAN1R0ME0L
pins: 1, 2

## ERA-3AED154V
designator R?, comment 150k 0.5%
Resistor 150k 0.5%; Manufacturer_Name: Panasonic; Manufacturer_Part_Number: ERA-3AED154V; Datasheet Link: https://industrial.panasonic.com/cdbs/www-data/pdf/RDM0000/AOA0000C307.pdf; Height: 0.55mm; Mouser Part Number: 667-ERA-3AED154V; Mouser Price/Stock: https://www.mouser.co.uk/ProductDetail/Panasonic/ERA-3AED154V?qs=MNPzkKEzRtSm98HasUBZjQ%3D%3D; Arrow Part Number: ERA-3AED154V; Arrow Price/Stock: https://www.arrow.com/en/products/era-3aed154v/panasonic?region=nac; Supplier 1: Mouser; Supplier Part Number 1: 667-ERA-3AED154V
footprint ERA3AEB101V
pins: 1, 2

## ERJ-3EKF2700V
designator R?, comment 270R 1%
Resistor 270R 1%; Manufacturer_Name: Panasonic; Manufacturer_Part_Number: ERJ-3EKF2700V; Datasheet Link: http://industrial.panasonic.com/cdbs/www-data/pdf/RDA0000/AOA0000C86.pdf; Height: 0.55mm; Mouser Part Number: 667-ERJ-3EKF2700V; Mouser Price/Stock: https://www.mouser.co.uk/ProductDetail/Panasonic/ERJ-3EKF2700V?qs=iBwFsHVUAOdaUVxng5ojCw%3D%3D; Arrow Part Number: ERJ-3EKF2700V; Arrow Price/Stock: https://www.arrow.com/en/products/erj-3ekf2700v/panasonic?region=nac; Value: 270R
footprint RESC1608X55N
pins: 1, 2

## ERJ-P06J332V
designator R?
Resistor; Manufacturer_Name: Panasonic; Manufacturer_Part_Number: ERJ-P06J332V; Datasheet Link: http://industrial.panasonic.com/cdbs/www-data/pdf/RDA0000/AOA0000C102.pdf; Height: 0.7mm; Mouser Part Number: 667-ERJ-P06J332V; Mouser Price/Stock: https://www.mouser.co.uk/ProductDetail/Panasonic/ERJ-P06J332V?qs=Zyl8A9hlmJrue%2FwxovXuCg%3D%3D; Arrow Part Number: ERJ-P06J332V; Arrow Price/Stock: https://www.arrow.com/en/products/erj-p06j332v/panasonic
footprint ERJP06D1000V
pins: 1, 2

## ESDA6V1-5SC6
designator IC?
Integrated Circuit; Manufacturer_Name: STMicroelectronics; Manufacturer_Part_Number: ESDA6V1-5SC6; Datasheet Link: http://www.st.com/st-web-ui/static/active/en/resource/technical/document/datasheet/CD00005102.pdf; Height: 1.45mm; Mouser Part Number: 511-ESDA6V1-5SC6; Mouser Price/Stock: https://www.mouser.co.uk/ProductDetail/STMicroelectronics/ESDA6V1-5SC6?qs=ZN9SVtODT3yxqNpCUKP6Bg%3D%3D; Arrow Part Number: ESDA6V1-5SC6; Arrow Price/Stock: https://www.arrow.com/en/products/esda6v1-5sc6/stmicroelectronics?region=nac
footprint SOT95P280X145-6N
pins: 1 K1, 2 K2, 3 K5, 4 K4, 5 K3, 6 K2

## FC-135_32.7680KA-AG0
designator Y?
Crystal or Oscillator; Manufacturer_Name: Epson Timing; Manufacturer_Part_Number: FC-135 32.7680KA-AG0; Datasheet Link: https://support.epson.biz/td/api/doc_check.php?dl=brief_FC-135&lang=en/.pdf; Height: 0.9mm; Mouser Part Number: 732-FC135-32.76KAAG0; Mouser Price/Stock: https://www.mouser.co.uk/ProductDetail/Epson-Timing/FC-135-32.7680KA-AG0?qs=l3LL3yk8ONZCQSM4diwOUg%3D%3D; Arrow Part Number: FC-135 32.7680KA-AG0; Arrow Price/Stock: https://www.arrow.com/en/products/fc-13532.7680ka-ag0/epson-electronics-america?utm_currency=USD&region=nac
footprint FC135327680KAAG0
pins: 1 CRYSTAL_1, 2 CRYSTAL_2

## FTSH-105-01-F-D-K
designator J?
Connector; Manufacturer_Name: SAMTEC; Manufacturer_Part_Number: FTSH-105-01-F-D-K; Datasheet Link: http://suddendocs.samtec.com/prints/ftsh-1xx-xx-xxx-d-xxx-xx-mkt.pdf; Mouser Part Number: 200-FTSH10501FDK; Mouser Price/Stock: https://www.mouser.co.uk/ProductDetail/Samtec/FTSH-105-01-F-D-K?qs=FESYatJ8odIwRE%252Bc%2FZcQYA%3D%3D; Arrow Part Number: FTSH-105-01-F-D-K; Arrow Price/Stock: https://www.arrow.com/en/products/ftsh-105-01-f-d-k/samtec?utm_currency=USD&region=europe
footprint FTSH-105-XX-YYY-D-K
pins: 1, 2, 3, 4, 5, 6, 7, 8, 9, 10

## FTSH-105-01-F-D-RA-K
designator J?
Connector; Manufacturer_Name: SAMTEC; Manufacturer_Part_Number: FTSH-105-01-F-D-RA-K; Datasheet Link: https://www.digikey.ph/en/products/detail/samtec-inc/FTSH-105-01-F-D-RA-K/6678169?msockid=39f1ec84d77b6f4428b7f904d6676eed; Mouser Part Number: 200-FTSH10501FDRAK; Mouser Price/Stock: https://www.mouser.co.uk/ProductDetail/Samtec/FTSH-105-01-F-D-RA-K?qs=rU5fayqh%252BE1V1PXadoS%2Fyw%3D%3D; Arrow Part Number: FTSH-105-01-F-D-RA-K; Arrow Price/Stock: https://www.arrow.com/en/products/ftsh-105-01-f-d-ra-k/samtec?region=nac
footprint FTSH-105-XX-YYY-D-RA-K
pins: 1, 2, 3, 4, 5, 6, 7, 8, 9, 10

## FTSH-105-01-L-DV-K
designator J?
Connector; Manufacturer_Name: SAMTEC; Manufacturer_Part_Number: FTSH-105-01-L-DV-K; Datasheet Link: https://www.arrow.com/en/products/ftsh-105-01-l-dv-k/samtec; Height: 6.1mm; Mouser Part Number: 200-FTSH10501LDVK; Mouser Price/Stock: https://www.mouser.co.uk/ProductDetail/Samtec/FTSH-105-01-L-DV-K?qs=%252B5JSS813miOqo3Vy%252BvhCFg%3D%3D; Arrow Part Number: FTSH-105-01-L-DV-K; Arrow Price/Stock: https://www.arrow.com/en/products/ftsh-105-01-l-dv-k/samtec?utm_currency=USD&region=europe
footprint FTSH10501LDVK
pins: 1, 2, 3, 4, 5, 6, 7, 8, 9, 10

## GRM31C5C1H224JE02L
designator C?, comment 220nF 50V C0G
Capacitor 220nF 50V C0G; Manufacturer_Name: Murata Electronics; Manufacturer_Part_Number: GRM31C5C1H224JE02L; Datasheet Link: https://search.murata.co.jp/Ceramy/image/img/A01X/G101/ENG/GRM31C5C1H224JE02-01A.pdf; Height: 1.8mm; Mouser Part Number: 81-GRM31C5C1H224JE2L; Mouser Price/Stock: https://www.mouser.co.uk/ProductDetail/Murata-Electronics/GRM31C5C1H224JE02L?qs=qSfuJ%252Bfl%2Fd7ovrk3%2F2FSbQ%3D%3D; Arrow Part Number: GRM31C5C1H224JE02L; Arrow Price/Stock: https://www.arrow.com/en/products/grm31c5c1h224je02l/murata-manufacturing?region=nac; Value: 220nF 50V
footprint CAPC3216X180N
pins: 1, 2

## GRM188R71H224KAC4J
designator C?
Capacitor; Manufacturer_Name: Murata Electronics; Manufacturer_Part_Number: GRM188R71H224KAC4J; Datasheet Link: https://search.murata.co.jp/Ceramy/image/img/A01X/G101/ENG/GRM188R71H224KAC4-01A.pdf; Height: 0.9mm; Mouser Part Number: 81-GRM188R71H224KA4J; Mouser Price/Stock: https://www.mouser.co.uk/ProductDetail/Murata-Electronics/GRM188R71H224KAC4J?qs=jHkklCh7amjbWVXSvnFGBA%3D%3D; Arrow Part Number: GRM188R71H224KAC4J; Arrow Price/Stock: https://www.arrow.com/en/products/grm188r71h224kac4j/murata-manufacturing
footprint GRM18x
pins: 1, 2

## GRM188Z71A106MA73D
designator C?
Capacitor; Manufacturer_Name: Murata Electronics; Manufacturer_Part_Number: GRM188Z71A106MA73D; Datasheet Link: https://search.murata.co.jp/Ceramy/image/img/A01X/G101/ENG/GRM188Z71A106MA73-01A.pdf; Height: 0.9mm; Mouser Part Number: 81-GRM188Z71A106MA3D; Mouser Price/Stock: https://www.mouser.co.uk/ProductDetail/Murata-Electronics/GRM188Z71A106MA73D?qs=Y%252BBGkTaltXt4aDn0%2FsxyNQ%3D%3D; Arrow Part Number: GRM188Z71A106MA73D; Arrow Price/Stock: https://www.arrow.com/en/products/grm188z71a106ma73d/murata-manufacturing?utm_currency=USD&region=europe
footprint GRM18x
pins: 1, 2

## GRM188Z71A475KE15J
designator C?, comment 4.7uF, 10V, X7R
Capacitor  4.7uF, 10V, X7R; Manufacturer_Name: Murata Electronics; Manufacturer_Part_Number: GRM188Z71A475KE15J; Datasheet Link: https://search.murata.co.jp/Ceramy/image/img/A01X/G101/ENG/GRM188Z71A475KE15-01A.pdf; Height: 0.9mm; Mouser Part Number: 81-GRM188Z71A475KE5J; Mouser Price/Stock: https://www.mouser.co.uk/ProductDetail/Murata-Electronics/GRM188Z71A475KE15J?qs=Ey7%2FXF42M3fe52ZB0l7gLw%3D%3D; Supplier 1: Mouser; Supplier Part Number 1: 81-GRM188Z71A475KE5J
footprint GRM18x
pins: 1, 2

## HMK107BJ104KA-T
designator C?, comment 100nF 100V X5R
Capacitor 100nF X5R 100VDC; Manufacturer_Name: TAIYO YUDEN; Manufacturer_Part_Number: HMK107BJ104KA-T; Datasheet Link: https://ds.yuden.co.jp/TYCOMPAS/jp/specSheet?pn=MSASH168SB5104KTNA01; Height: 0.9mm; Mouser Part Number: 963-HMK107BJ104KA-T; Mouser Price/Stock: https://www.mouser.co.uk/ProductDetail/Taiyo-Yuden/HMK107BJ104KA-T?qs=I6KAKw0tg2wpEwZmo3gKZg%3D%3D; Value: 100nF
footprint CAPC1608X90N
pins: 1, 2

## ISO1044BDR
designator IC?
Integrated Circuit; Manufacturer_Name: Texas Instruments; Manufacturer_Part_Number: ISO1044BDR; Datasheet Link: http://www.ti.com/lit/gpn/iso1044?HQS=ti-null-null-sf-df-pf-sep-wwe&DCM=yes; Height: 1.75mm; Mouser Part Number: 595-ISO1044BDR; Mouser Price/Stock: https://www.mouser.co.uk/ProductDetail/Texas-Instruments/ISO1044BDR?qs=DuoOggApuK9UGD9QQWYeTA%3D%3D; Arrow Part Number: ISO1044BDR; Arrow Price/Stock: https://www.arrow.com/en/products/iso1044bdr/texas-instruments?utm_currency=USD&region=nac
footprint SOIC127P600X175-8N
pins: 1 VIO, 2 TXD, 3 RXD, 4 VSSIO, 5 CANL, 6 CANH, 7 GND, 8 VCC

## ISOUSB111DWXR
designator IC?
Integrated Circuit; Manufacturer_Name: Texas Instruments; Manufacturer_Part_Number: ISOUSB111DWXR; Datasheet Link: https://www.ti.com/lit/ds/symlink/isousb111.pdf?ts=1669697942868&ref_url=https%253A%252F%252Fwww.ti.com%252Fproduct%252FISOUSB111%253FkeyMatch%253DISOUSB111DWXR%2526tisearch%253Dsearch-everything%2526usecase%253DOPN; Height: 2.6mm; Mouser Part Number: 595-ISOUSB111DWXR; Mouser Price/Stock: https://www.mouser.co.uk/ProductDetail/Texas-Instruments/ISOUSB111DWXR?qs=Y0Uzf4wQF3msEozH7EwD3g%3D%3D; Arrow Part Number: ISOUSB111DWXR; Arrow Price/Stock: https://www.arrow.com/en/products/isousb111dwxr/texas-instruments?region=nac
footprint SOP65P1030X260-16N
pins: 1 VBUS1, 2 GND1_1, 3 V3P3V1, 4 NC_1, 5 V2OK, 6 UD-, 7 UD+, 8 GND1_2, 9 GND2_1, 10 DD+, 11 DD-, 12 V1OK, 13 NC_2, 14 V3P3V2, 15 GND2_2, 16 VBUS2

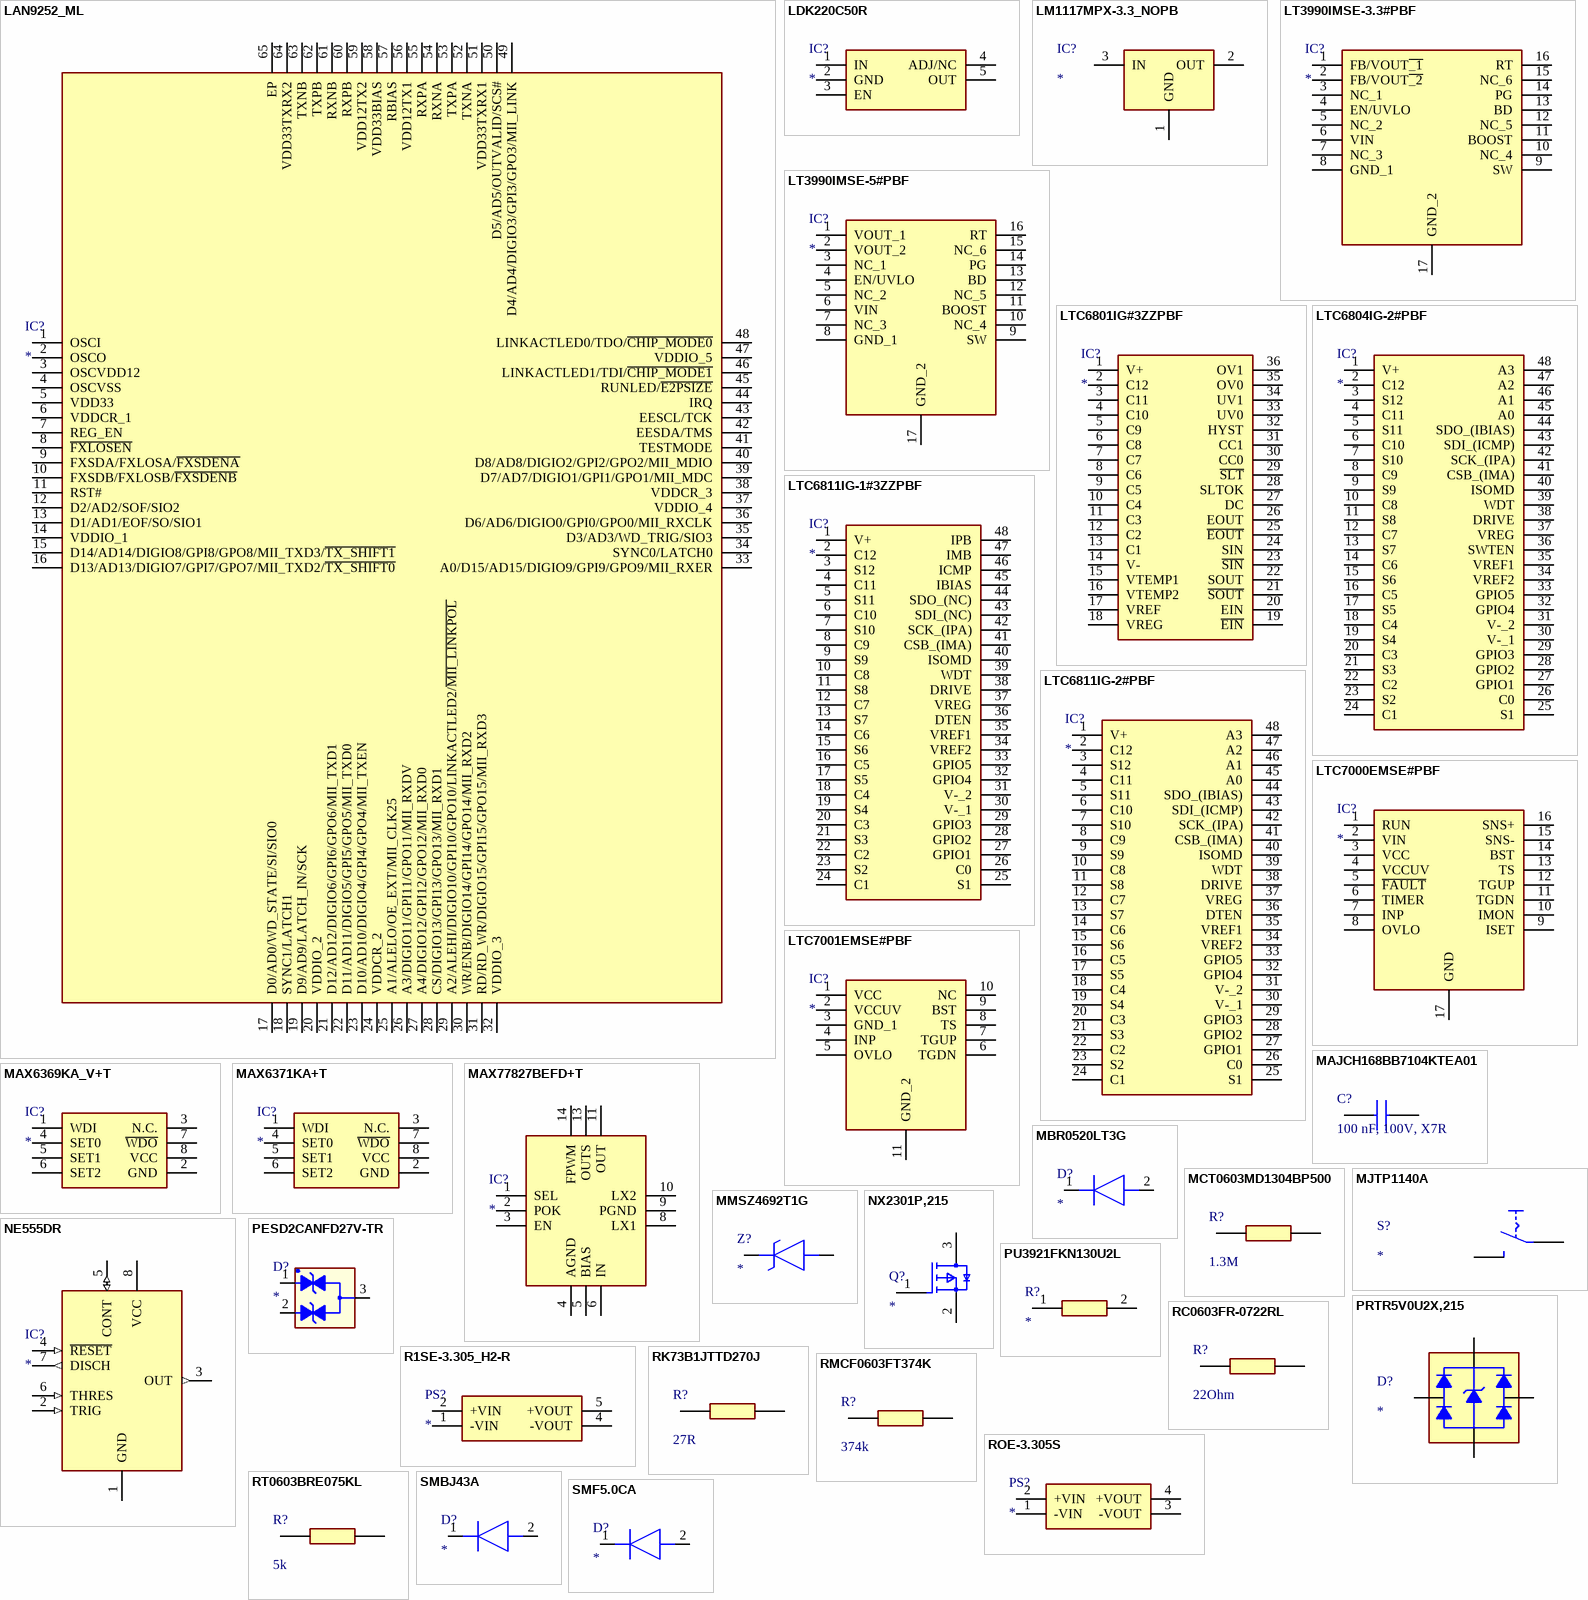
[diagram p2: symbols LAN9252_ML to SMF5.0CA]

## LAN9252_ML
designator IC?
Integrated Circuit; Manufacturer_Name: Microchip; Manufacturer_Part_Number: LAN9252/ML; Datasheet Link: https://componentsearchengine.com/Datasheets/1/LAN9252_ML.pdf; Height: 1mm; Mouser Part Number: 579-LAN9252/ML; Mouser Price/Stock: https://www.mouser.co.uk/ProductDetail/Microchip-Technology/LAN9252-ML?qs=%252ByRm1sYhYIl68yMSuZ2bQg%3D%3D; Arrow Part Number: LAN9252/ML; Arrow Price/Stock: https://www.arrow.com/en/products/lan9252ml/microchip-technology?utm_currency=USD&region=nac
footprint QFN50P900X900X100-65N-D
pins: 1 OSCI, 2 OSCO, 3 OSCVDD12, 4 OSCVSS, 5 VDD33, 6 VDDCR_1, 7 REG_EN, 8 ~{FXLOSEN}, 9 FXSDA/FXLOSA/~{FXSDENA}, 10 FXSDB/FXLOSB/~{FXSDENB}, 11 RST#, 12 D2/AD2/SOF/SIO2, 13 D1/AD1/EOF/SO/SIO1, 14 VDDIO_1, 15 D14/AD14/DIGIO8/GPI8/GPO8/MII_TXD3/~{TX_SHIFT1}, 16 D13/AD13/DIGIO7/GPI7/GPO7/MII_TXD2/~{TX_SHIFT0}, 17 D0/AD0/WD_STATE/SI/SIO0, 18 SYNC1/LATCH1, 19 D9/AD9/LATCH_IN/SCK, 20 VDDIO_2, 21 D12/AD12/DIGIO6/GPI6/GPO6/MII_TXD1, 22 D11/AD11/DIGIO5/GPI5/GPO5/MII_TXD0, 23 D10/AD10/DIGIO4/GPI4/GPO4/MII_TXEN, 24 VDDCR_2, 25 A1/ALELO/OE_EXT/MII_CLK25, 26 A3/DIGIO11/GPI11/GPO11/MII_RXDV, 27 A4/DIGIO12/GPI12/GPO12/MII_RXD0, 28 CS/DIGIO13/GPI13/GPO13/MII_RXD1, 29 A2/ALEHI/DIGIO10/GPI10/GPO10/LINKACTLED2/~{MII_LINKPOL}, 30 WR/ENB/DIGIO14/GPI14/GPO14/MII_RXD2, 31 RD/RD_WR/DIGIO15/GPI15/GPO15/MII_RXD3, 32 VDDIO_3, 33 A0/D15/AD15/DIGIO9/GPI9/GPO9/MII_RXER, 34 SYNC0/LATCH0, 35 D3/AD3/WD_TRIG/SIO3, 36 D6/AD6/DIGIO0/GPI0/GPO0/MII_RXCLK, 37 VDDIO_4, 38 VDDCR_3, 39 D7/AD7/DIGIO1/GPI1/GPO1/MII_MDC, 40 D8/AD8/DIGIO2/GPI2/GPO2/MII_MDIO, 41 TESTMODE, 42 EESDA/TMS, 43 EESCL/TCK, 44 IRQ, 45 RUNLED/~{E2PSIZE}, 46 LINKACTLED1/TDI/~{CHIP_MODE1}, 47 VDDIO_5, 48 LINKACTLED0/TDO/~{CHIP_MODE0}, 49 D4/AD4/DIGIO3/GPI3/GPO3/MII_LINK, 50 D5/AD5/OUTVALID/SCS#, 51 VDD33TXRX1, 52 TXNA, 53 TXPA, 54 RXNA, 55 RXPA, 56 VDD12TX1, 57 RBIAS, 58 VDD33BIAS, 59 VDD12TX2, 60 RXPB, 61 RXNB, 62 TXPB, 63 TXNB, 64 VDD33TXRX2, 65 EP

## LDK220C50R
designator IC?
Integrated Circuit; Manufacturer_Name: STMicroelectronics; Manufacturer_Part_Number: LDK220C50R; Datasheet Link: https://www.st.com/resource/en/datasheet/ldk220.pdf; Height: 1.1mm; Mouser Part Number: 511-LDK220C50R; Mouser Price/Stock: https://www.mouser.co.uk/ProductDetail/STMicroelectronics/LDK220C50R?qs=WHlX%252B%252B9%2FRwBA7BTF5zL09w%3D%3D; Arrow Part Number: LDK220C50R; Arrow Price/Stock: https://www.arrow.com/en/products/ldk220c50r/stmicroelectronics?region=nac
footprint SOT65P210X110-5N
pins: 1 IN, 2 GND, 3 EN, 4 ADJ/NC, 5 OUT

## LM1117MPX-3.3_NOPB
designator IC?
Integrated Circuit; Manufacturer_Name: Texas Instruments; Manufacturer_Part_Number: LM1117MPX-3.3/NOPB; Datasheet Link: http://www.ti.com/lit/ds/symlink/lm1117.pdf; Height: 1.8mm; Mouser Part Number: 926-LM1117MPX3.3NOPB; Mouser Price/Stock: https://www.mouser.co.uk/ProductDetail/Texas-Instruments/LM1117MPX-3.3-NOPB?qs=X1J7HmVL2ZHRbBIxXi4utg%3D%3D; Arrow Part Number: LM1117MPX-3.3/NOPB; Arrow Price/Stock: https://www.arrow.com/en/products/lm1117mpx-3.3nopb/texas-instruments?utm_currency=USD&region=nac
footprint SOT230P700X180-4N
pins: 1 GND, 2 OUT, 3 IN

## LT3990IMSE-3.3#PBF
designator IC?
Integrated Circuit; Manufacturer_Name: Analog Devices; Manufacturer_Part_Number: LT3990IMSE-3.3#PBF; Datasheet Link: https://www.analog.com/LT3990/datasheet; Height: 1.1mm; Mouser Part Number: 584-3990IMSE-3.3PBF; Mouser Price/Stock: https://www.mouser.co.uk/ProductDetail/Analog-Devices/LT3990IMSE-3.3PBF?qs=hVkxg5c3xu8pU5y8AinUWQ%3D%3D; Arrow Part Number: LT3990IMSE-3.3#PBF; Arrow Price/Stock: https://www.arrow.com/en/products/lt3990imse-3.3pbf/analog-devices?region=nac
footprint SOP50P490X110-17N
pins: 1 FB/VOUT~{_1}, 2 FB/VOUT~{_2}, 3 NC_1, 4 EN/UVLO, 5 NC_2, 6 VIN, 7 NC_3, 8 GND_1, 9 SW, 10 NC_4, 11 BOOST, 12 NC_5, 13 BD, 14 PG, 15 NC_6, 16 RT, 17 GND_2

## LT3990IMSE-5#PBF
designator IC?
Integrated Circuit; Manufacturer_Name: Analog Devices; Manufacturer_Part_Number: LT3990IMSE-5#PBF; Datasheet Link: https://www.analog.com/LT3990/datasheet; Height: 1.1mm; Mouser Part Number: 584-LT3990IMSE-5#PBF; Mouser Price/Stock: https://www.mouser.co.uk/ProductDetail/Analog-Devices/LT3990IMSE-5PBF?qs=hVkxg5c3xu%252BVMOa5O8HlFw%3D%3D; Arrow Part Number: LT3990IMSE-5#PBF; Arrow Price/Stock: https://www.arrow.com/en/products/lt3990imse-5pbf/analog-devices?region=nac
footprint SOP50P490X110-17N
pins: 1 VOUT_1, 2 VOUT_2, 3 NC_1, 4 EN/UVLO, 5 NC_2, 6 VIN, 7 NC_3, 8 GND_1, 9 SW, 10 NC_4, 11 BOOST, 12 NC_5, 13 BD, 14 PG, 15 NC_6, 16 RT, 17 GND_2

## LTC6801IG#3ZZPBF
designator IC?
Integrated Circuit; Manufacturer_Name: Analog Devices; Manufacturer_Part_Number: LTC6801IG#3ZZPBF; Datasheet Link: https://www.analog.com/LTC6801/datasheet; Height: 2mm; Mouser Part Number: 584-LTC6801IG#3ZZPBF; Mouser Price/Stock: https://www.mouser.com/Search/Refine.aspx?Keyword=584-LTC6801IG%233ZZPBF; Arrow Part Number: LTC6801IG#3ZZPBF; Arrow Price/Stock: https://www.arrow.com/en/products/ltc6801ig3zzpbf/analog-devices
footprint SOP65P780X200-36N
pins: 1 V+, 2 C12, 3 C11, 4 C10, 5 C9, 6 C8, 7 C7, 8 C6, 9 C5, 10 C4, 11 C3, 12 C2, 13 C1, 14 V-, 15 VTEMP1, 16 VTEMP2, 17 VREF, 18 VREG, 19 ~{EIN}, 20 EIN, 21 ~{SOUT}, 22 SOUT, 23 ~{SIN}, 24 SIN, 25 ~{EOUT}, 26 EOUT, 27 DC, 28 SLTOK, 29 ~{SLT}, 30 CC0, 31 CC1, 32 HYST, 33 UV0, 34 UV1, 35 OV0, 36 OV1

## LTC6804IG-2#PBF
designator IC?
Integrated Circuit; Manufacturer_Name: Analog Devices; Manufacturer_Part_Number: LTC6804IG-2#PBF; Datasheet Link: https://www.analog.com/media/en/dsp-documentation/evaluation-kit-manuals/dc1942bf.pdf; Height: 2mm; Mouser Part Number: 584-LTC6804IG-2#PBF; Mouser Price/Stock: https://www.mouser.co.uk/ProductDetail/Analog-Devices/LTC6804IG-2PBF?qs=hVkxg5c3xu9J5aXeRrCrGw%3D%3D; Arrow Part Number: LTC6804IG-2#PBF; Arrow Price/Stock: https://www.arrow.com/en/products/ltc6804ig-2pbf/analog-devices?utm_currency=USD&region=nac
footprint SOP50P780X200-48N
pins: 1 V+, 2 C12, 3 S12, 4 C11, 5 S11, 6 C10, 7 S10, 8 C9, 9 S9, 10 C8, 11 S8, 12 C7, 13 S7, 14 C6, 15 S6, 16 C5, 17 S5, 18 C4, 19 S4, 20 C3, 21 S3, 22 C2, 23 S2, 24 C1, 25 S1, 26 C0, 27 GPIO1, 28 GPIO2, 29 GPIO3, 30 V-_1, 31 V-_2, 32 GPIO4, 33 GPIO5, 34 VREF2, 35 VREF1, 36 SWTEN, 37 VREG, 38 DRIVE, 39 WDT, 40 ISOMD, 41 CSB_(IMA), 42 SCK_(IPA), 43 SDI_(ICMP), 44 SDO_(IBIAS), 45 A0, 46 A1, 47 A2, 48 A3

## LTC6811IG-1#3ZZPBF
designator IC?
Integrated Circuit; Manufacturer_Name: Analog Devices; Manufacturer_Part_Number: LTC6811IG-1#3ZZPBF; Datasheet Link: https://www.analog.com/LTC6811-1/datasheet; Height: 2mm; Mouser Part Number: 584-6811IG-1#3ZZPB; Mouser Price/Stock: https://www.mouser.co.uk/ProductDetail/Analog-Devices/LTC6811IG-13ZZPBF?qs=byeeYqUIh0OsQ2M0i6MweA%3D%3D; Arrow Part Number: LTC6811IG-1#3ZZPBF; Arrow Price/Stock: https://www.arrow.com/en/products/ltc6811ig-13zzpbf/analog-devices
footprint SOP50P780X200-48N
pins: 1 V+, 2 C12, 3 S12, 4 C11, 5 S11, 6 C10, 7 S10, 8 C9, 9 S9, 10 C8, 11 S8, 12 C7, 13 S7, 14 C6, 15 S6, 16 C5, 17 S5, 18 C4, 19 S4, 20 C3, 21 S3, 22 C2, 23 S2, 24 C1, 25 S1, 26 C0, 27 GPIO1, 28 GPIO2, 29 GPIO3, 30 V-_1, 31 V-_2, 32 GPIO4, 33 GPIO5, 34 VREF2, 35 VREF1, 36 DTEN, 37 VREG, 38 DRIVE, 39 WDT, 40 ISOMD, 41 CSB_(IMA), 42 SCK_(IPA), 43 SDI_(NC), 44 SDO_(NC), 45 IBIAS, 46 ICMP, 47 IMB, 48 IPB

## LTC6811IG-2#PBF
designator IC?
Integrated Circuit; Manufacturer_Name: Analog Devices; Manufacturer_Part_Number: LTC6811IG-2#PBF; Datasheet Link: https://datasheet.datasheetarchive.com/originals/distributors/DKDS42/DSANUWW0041878.pdf; Height: 2mm; Mouser Part Number: 584-LTC6811IG-2#PBF; Mouser Price/Stock: https://www.mouser.co.uk/ProductDetail/Analog-Devices/LTC6811IG-2PBF?qs=oahfZPh6IAI0fFYgAupCpg%3D%3D; Arrow Part Number: LTC6811IG-2#PBF; Arrow Price/Stock: https://www.arrow.com/en/products/ltc6811ig-2pbf/analog-devices?region=nac
footprint SOP50P780X200-48N
pins: 1 V+, 2 C12, 3 S12, 4 C11, 5 S11, 6 C10, 7 S10, 8 C9, 9 S9, 10 C8, 11 S8, 12 C7, 13 S7, 14 C6, 15 S6, 16 C5, 17 S5, 18 C4, 19 S4, 20 C3, 21 S3, 22 C2, 23 S2, 24 C1, 25 S1, 26 C0, 27 GPIO1, 28 GPIO2, 29 GPIO3, 30 V-_1, 31 V-_2, 32 GPIO4, 33 GPIO5, 34 VREF2, 35 VREF1, 36 DTEN, 37 VREG, 38 DRIVE, 39 WDT, 40 ISOMD, 41 CSB_(IMA), 42 SCK_(IPA), 43 SDI_(ICMP), 44 SDO_(IBIAS), 45 A0, 46 A1, 47 A2, 48 A3

## LTC7000EMSE#PBF
designator IC?
Integrated Circuit; Manufacturer_Name: Analog Devices; Manufacturer_Part_Number: LTC7000EMSE#PBF; Datasheet Link: https://www.analog.com/media/en/technical-documentation/data-sheets/ltc7000-7000-1.pdf; Height: 1.1mm; Mouser Part Number: 584-LTC7000EMSEPBF; Mouser Price/Stock: https://www.mouser.co.uk/ProductDetail/Analog-Devices/LTC7000EMSEPBF?qs=BZBei1rCqCABaEvAxqf5Sw%3D%3D; Arrow Part Number: LTC7000EMSE#PBF; Arrow Price/Stock: https://www.arrow.com/en/products/ltc7000emsepbf/analog-devices?region=nac
footprint SOP50P490X110-17N
pins: 1 RUN, 2 VIN, 3 VCC, 4 VCCUV, 5 ~{FAULT}, 6 TIMER, 7 INP, 8 OVLO, 9 ISET, 10 IMON, 11 TGDN, 12 TGUP, 13 TS, 14 BST, 15 SNS-, 16 SNS+, 17 GND

## LTC7001EMSE#PBF
designator IC?
Integrated Circuit; Manufacturer_Name: Analog Devices; Manufacturer_Part_Number: LTC7001EMSE#PBF; Datasheet Link: https://www.mouser.de/datasheet/2/609/LTC7001-1504282.pdf; Height: 1.1mm; Mouser Part Number: 584-LTC7001EMSEPBF; Mouser Price/Stock: https://www.mouser.co.uk/ProductDetail/Analog-Devices/LTC7001EMSEPBF?qs=BZBei1rCqCDffAMQwGwGFw%3D%3D; Arrow Part Number: LTC7001EMSE#PBF; Arrow Price/Stock: https://www.arrow.com/en/products/ltc7001emsepbf/analog-devices?utm_currency=USD&region=nac
footprint SOP50P490X110-11N
pins: 1 VCC, 2 VCCUV, 3 GND_1, 4 INP, 5 OVLO, 6 TGDN, 7 TGUP, 8 TS, 9 BST, 10 NC, 11 GND_2